# EAGLE library part SFV5R (library jnode)
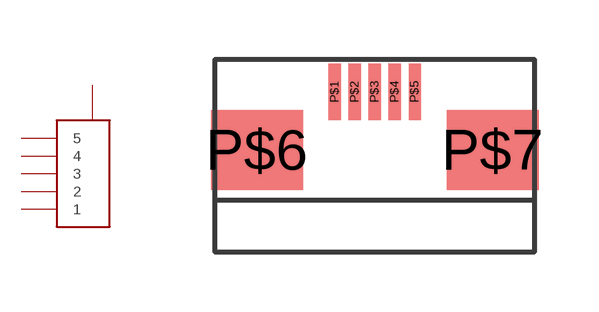
[diagram p4: symbol with the pads of SFV5R; footprint SFV5R]

Designator prefix -

## SFV5R  [SFV5R]
P$1  1
P$2  2
P$3  3
P$4  4
P$5  5
P$6  P$6
P$7  P$6

## Footprint SFV5R (pad centres in mm)
smd 0.3 x 1.4: P$1 0.5,0; P$2 1,0; P$3 1.5,0; P$4 2,0; P$5 2.5,0
smd 2.3 x 2: P$6 -1.45,-1.45; P$7 4.45,-1.45